# EAGLE library part TECHISCOOL_AVR_PDI (library Outline)
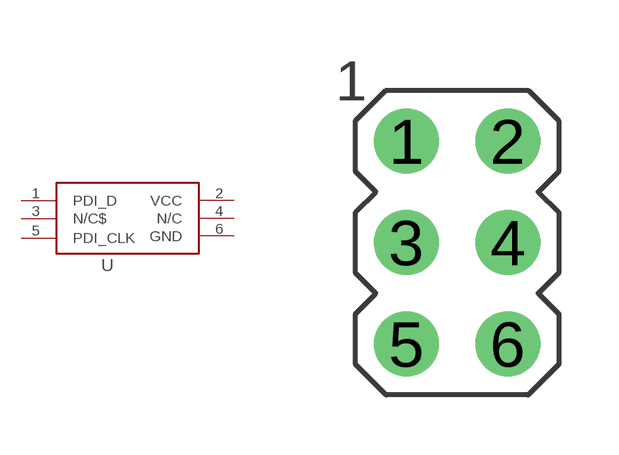
[diagram p3: symbol with the pads of TECHISCOOL_AVR_PDI; footprint TECHISCOOL_AVR_PDI]

Designator prefix -

## TECHISCOOL_AVR_PDI  [TECHISCOOL_AVR_PDI]
1  PDI_D  in
2  VCC  pwr
3  N/C$  out
4  N/C  out
5  PDI_CLK  out
6  GND  pwr

## Footprint TECHISCOOL_AVR_PDI (pad centres in mm)
drill 0.9 pad 1.626: 1 -1.27,2.54; 2 1.27,2.54; 3 -1.27,0; 4 1.27,0; 5 -1.27,-2.54; 6 1.27,-2.54